# EAGLE library part BATTERY-MANAGEMENT-TEMP_BQ24075 (library ForestVisionParts)
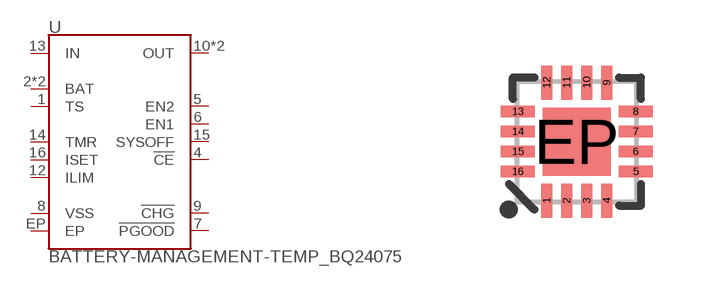
[diagram p7: symbol with the pads of BATTERY-MANAGEMENT-TEMP_PVQFN-N16; footprint BATTERY-MANAGEMENT-TEMP_PVQFN-N16]

Designator prefix U

## BATTERY-MANAGEMENT-TEMP_BQ24075  [BATTERY-MANAGEMENT-TEMP_PVQFN-N16]
1  TS
2  BAT
3  BAT
4  !CE!
5  EN2
6  EN1
7  !PGOOD!
8  VSS
9  !CHG!
10  OUT
11  OUT
12  ILIM
13  IN
14  TMR
15  SYSOFF
16  ISET
EP  EP

## Footprint BATTERY-MANAGEMENT-TEMP_PVQFN-N16 (pad centres in mm)
smd 0.28 x 0.85: 1 -0.75,-1.475; 2 -0.25,-1.475; 3 0.25,-1.475; 4 0.75,-1.475; 9 0.75,1.475; 10 0.25,1.475; 11 -0.25,1.475; 12 -0.75,1.475
smd 0.85 x 0.28: 5 1.475,-0.75; 6 1.475,-0.25; 7 1.475,0.25; 8 1.475,0.75; 13 -1.475,0.75; 14 -1.475,0.25; 15 -1.475,-0.25; 16 -1.475,-0.75
smd 1.7 x 1.7: EP 0,0